# EAGLE library part REGULATOR,MODULE,LMZ3060X (library QuantumOptics)
LMZ3060x SMPS module, settable voltage, 2/6A from T.I.
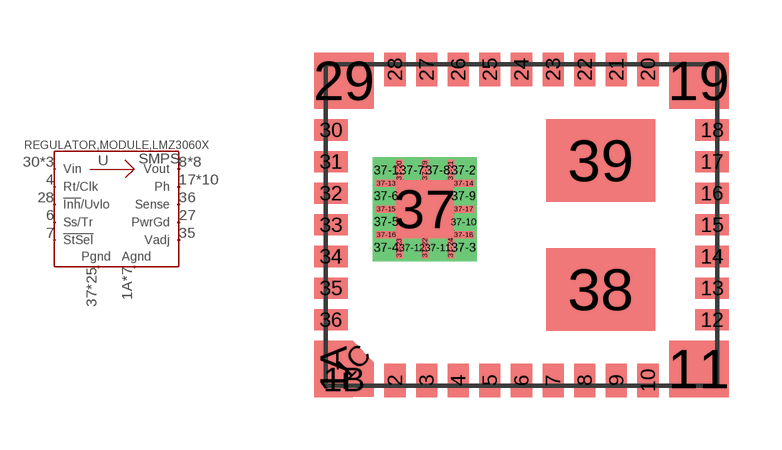
[diagram p212: symbol with the pads of QFN-39_MODULE,R-PB1QFN-N39; footprint QFN-39_MODULE,R-PB1QFN-N39]

Designator prefix U

## REGULATOR,MODULE,LMZ3060X  [QFN-39_MODULE,R-PB1QFN-N39]
1A  AGND
1B  AGND
1C  AGND
4  RT/CLK  in
5  AGND
6  SS/TR  in
7  STSEL  in
8  OUT  out
9  OUT  out
10  OUT  out
11  OUT  out
12  OUT  out
13  OUT  out
14  OUT  out
17  PH
18  PH
19  PH
20  PH
21  PH
22  PH
23  PH
24  PH
25  PH
27  PWRGD  out
28  INH/UVLO  in
29  AGND
30  VIN
31  VIN
32  VIN
33  AGND
34  AGND
35  VADJ  in
36  SEN  in
37  PGND
37-1  PGND
37-2  PGND
37-3  PGND
37-4  PGND
37-5  PGND
37-6  PGND
37-7  PGND
37-8  PGND
37-9  PGND
37-10  PGND
37-11  PGND
37-12  PGND
37-13  PGND
37-14  PGND
37-15  PGND
37-16  PGND
37-17  PGND
37-18  PGND
37-19  PGND
37-20  PGND
37-21  PGND
37-22  PGND
37-23  PGND
37-24  PGND
38  OUT  out
39  PH

## Footprint QFN-39_MODULE,R-PB1QFN-N39 (pad centres in mm)
QFN-39 variant of module, based on TI's RKG (R-PB1QFN-N39), on SMPS module LMZ30602/4/6.
smd 1.09 x 1.6: 1A -5.35,-4.1
smd 1.7 x 0.99: 1B -5.05,-4.4
smd 0.863 x 0.863 rotated 45: 1C -4.81,-3.91
smd 0.6 x 0.95: 2 -3.6,-4.425; 3 -2.7,-4.425; 4 -1.8,-4.425; 5 -0.9,-4.425; 6 0,-4.425; 7 0.9,-4.425; 8 1.8,-4.425; 9 2.7,-4.425; 10 3.6,-4.425; 20 3.6,4.425; 21 2.7,4.425; 22 1.8,4.425; 23 0.9,4.425; 24 0,4.425; 25 -0.9,4.425; 26 -1.8,4.425; 27 -2.7,4.425; 28 -3.6,4.425
smd 1.7 x 1.6: 11 5.05,-4.1; 19 5.05,4.1; 29 -5.05,4.1
smd 0.95 x 0.6: 12 5.425,-2.7; 13 5.425,-1.8; 14 5.425,-0.9; 15 5.425,0; 16 5.425,0.9; 17 5.425,1.8; 18 5.425,2.7; 30 -5.425,2.7; 31 -5.425,1.8; 32 -5.425,0.9; 33 -5.425,0; 34 -5.425,-0.9; 35 -5.425,-1.8; 36 -5.425,-2.7
smd 1.65 x 1.65: 37 -2.75,0.45
drill 0.254 pad 0.6 square: 37-1 -3.85,1.55; 37-2 -1.65,1.55; 37-3 -1.65,-0.65; 37-4 -3.85,-0.65; 37-5 -3.85,0.083; 37-6 -3.85,0.817; 37-7 -3.117,1.55; 37-8 -2.383,1.55; 37-9 -1.65,0.817; 37-10 -1.65,0.083; 37-11 -2.383,-0.65; 37-12 -3.116,-0.65
smd 0.6 x 0.2: 37-13 -3.85,1.183; 37-14 -1.65,1.183; 37-15 -3.85,0.451; 37-16 -3.85,-0.282; 37-17 -1.65,0.451; 37-18 -1.65,-0.282
smd 0.2 x 0.6: 37-19 -2.75,1.55; 37-20 -3.483,1.55; 37-21 -2.017,1.55; 37-22 -2.75,-0.65; 37-23 -3.483,-0.65; 37-24 -2.017,-0.65
smd 3.1 x 2.35: 38 2.25,-1.835; 39 2.25,1.835